# Altium footprint library LGA.PcbLib: 4 footprints
Each footprint in its own frame and in the unit in brackets; x right, y up, seen from the top. Pads: shape width x height; smd on the part's side, far side on the other; paste and mask are expansions set on the pad; w line width, h text height; cw(c..) or ccw(c..) is an arc to the next point about the centre after c.
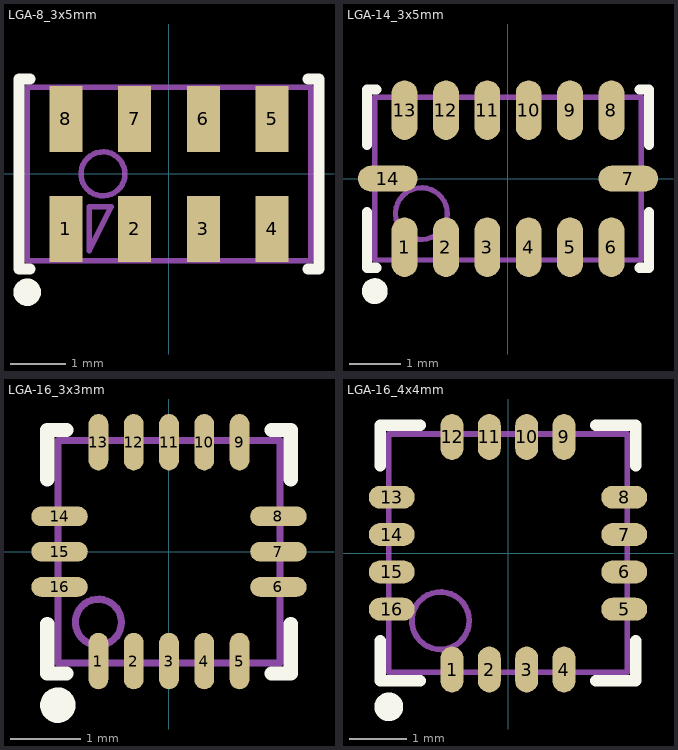
[diagram p0: the footprints below, top view; thin cyan lines are the x and y axes]

## LGA-8_3x5mm [mm]
pads (8):
  rect 0.6x1.2 smd: 1(-1.875,-1) 2(-0.625,-1) 3(0.625,-1) 4(1.875,-1) 5(1.875,1) 6(0.625,1) 7(-0.625,1) 8(-1.875,1)
Top Overlay:
  circle w0.25: c-2.575,-2.15 r0.125
  lines w0.2: -2.525,-1.725 -2.725,-1.725 -2.725,1.725 -2.525,1.725 ; 2.525,-1.725 2.725,-1.725 2.725,1.725 2.525,1.725
Mechanical 13:
  circle w0.1: c-1.2,0 r0.4
  lines w0.1: -2.575,-1.575 -2.575,1.575 2.575,1.575 2.575,-1.575 -2.575,-1.575 ; -1.45,-1.4 -1.05,-0.6 -1.45,-0.6 -1.45,-1.4

## LGA-14_3x5mm [mm]
pads (14):
  oval 0.5x1.15 smd mask+0.051: 1(-2,-1.325) 2(-1.2,-1.325) 3(-0.4,-1.325) 4(0.4,-1.325) 5(1.2,-1.325) 6(2,-1.325) 8(2,1.325) 9(1.2,1.325) 10(0.4,1.325) 11(-0.4,1.325) 12(-1.2,1.325) 13(-2,1.325)
  oval 1.15x0.5 smd mask+0.051: 7(2.325,0) 14(-2.325,0)
Top Overlay:
  circle w0.25: c-2.575,-2.175 r0.125
  lines w0.2: -2.725,-0.65 -2.725,-1.725 -2.55,-1.725 ; -2.725,0.65 -2.725,1.725 -2.55,1.725 ; 2.55,-1.725 2.725,-1.725 2.725,-0.65 ; 2.55,1.725 2.725,1.725 2.725,0.65
Mechanical 13:
  circle w0.1: c-1.675,-0.675 r0.5
  lines w0.1: -2.575,-1.575 -2.575,1.575 2.575,1.575 2.575,-1.575 -2.575,-1.575

## LGA-16_3x3mm [mm]
pads (16):
  oval 0.28x0.8 smd mask+0.051: 1(-1,-1.55) 2(-0.5,-1.55) 3(0,-1.55) 4(0.5,-1.55) 5(1,-1.55) 9(1,1.55) 10(0.5,1.55) 11(0,1.55) 12(-0.5,1.55) 13(-1,1.55)
  oval 0.8x0.28 smd mask+0.051: 6(1.55,-0.5) 7(1.55,0) 8(1.55,0.5) 14(-1.55,0.5) 15(-1.55,0) 16(-1.55,-0.5)
Top Overlay:
  circle w0.25: c-1.575,-2.175 r0.125
  lines w0.2: -1.725,-1.025 -1.725,-1.725 -1.45,-1.725 ; -1.725,1.025 -1.725,1.725 -1.45,1.725 ; 1.45,-1.725 1.725,-1.725 1.725,-1.025 ; 1.45,1.725 1.725,1.725 1.725,1.025
Mechanical 13:
  circle w0.1: c-1,-1 r0.326
  lines w0.1: -1.575,-1.575 1.575,-1.575 1.575,1.575 -1.575,1.575 -1.575,-1.575

## LGA-16_4x4mm [mm]
pads (16):
  oval 0.4x0.8 smd mask+0.051: 1(-0.975,-2.025) 2(-0.325,-2.025) 3(0.325,-2.025) 4(0.975,-2.025) 9(0.975,2.025) 10(0.325,2.025) 11(-0.325,2.025) 12(-0.975,2.025)
  oval 0.8x0.4 smd mask+0.051: 5(2.025,-0.975) 6(2.025,-0.325) 7(2.025,0.325) 8(2.025,0.975) 13(-2.025,0.975) 14(-2.025,0.325) 15(-2.025,-0.325) 16(-2.025,-0.975)
Top Overlay:
  circle w0.25: c-2.075,-2.675 r0.125
  lines w0.2: -2.225,-1.525 -2.225,-2.225 -1.525,-2.225 ; -2.225,1.525 -2.225,2.225 -1.525,2.225 ; 1.525,-2.225 2.225,-2.225 2.225,-1.525 ; 1.525,2.225 2.225,2.225 2.225,1.525
Mechanical 13:
  circle w0.1: c-1.175,-1.175 r0.5
  lines w0.1: -2.075,-2.075 2.075,-2.075 2.075,2.075 -2.075,2.075 -2.075,-2.075